# EAGLE library part MOSFET-P-8P (library Discreter)
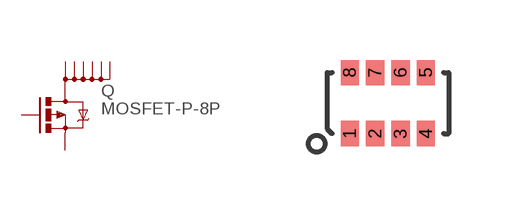
[diagram p4: symbol with the pads of 1206-8; footprint 1206-8]

Designator prefix Q

## MOSFET-P-8P-1206-8  [1206-8]
1  D  pas
2  D1  pas
3  D2  pas
4  G  pas
5  S  pas
6  D3  pas
7  D4  pas
8  D5  pas

## Footprint 1206-8 (pad centres in mm)
vishay dual mosfet or single mosfet http://www.vishay.com/mosfets/chipfet-package/
smd 0.457 x 0.635: 1 -0.953,-0.762; 2 -0.318,-0.762; 3 0.318,-0.762; 4 0.953,-0.762; 5 0.953,0.762; 6 0.318,0.762; 7 -0.318,0.762; 8 -0.953,0.762